# EAGLE library part LED-8X8-RGB-MATRIX (library Module)
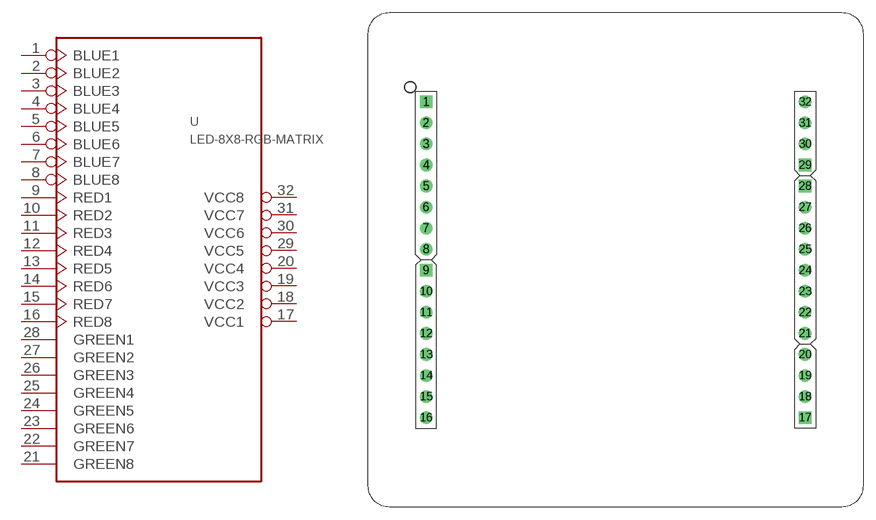
[diagram p11: symbol with the pads of 8X8-RGB-MATRIX; footprint 8X8-RGB-MATRIX]

Designator prefix U

## LED-8X8-RGB-MATRIX  [8X8-RGB-MATRIX]
1  BLUE1
2  BLUE2
3  BLUE3
4  BLUE4
5  BLUE5
6  BLUE6
7  BLUE7
8  BLUE8
9  RED1
10  RED2
11  RED3
12  RED4
13  RED5
14  RED6
15  RED7
16  RED8
17  VCC1
18  VCC2
19  VCC3
20  VCC4
21  GREEN8
22  GREEN7
23  GREEN6
24  GREEN5
25  GREEN4
26  GREEN3
27  GREEN2
28  GREEN1
29  VCC5
30  VCC6
31  VCC7
32  VCC8

## Footprint 8X8-RGB-MATRIX (pad centres in mm)
drill 0.813 pad 1.524 square: 1 6.985,48.895; 9 6.985,28.575; 17 52.705,10.795; 28 52.705,38.735; 29 52.705,41.275
drill 0.813 pad 1.524 round: 2 6.985,46.355; 3 6.985,43.815; 4 6.985,41.275; 5 6.985,38.735; 6 6.985,36.195; 7 6.985,33.655; 8 6.985,31.115; 10 6.985,26.035; 11 6.985,23.495; 12 6.985,20.955; 13 6.985,18.415; 14 6.985,15.875; 15 6.985,13.335; 16 6.985,10.795; 18 52.705,13.335; 19 52.705,15.875; 20 52.705,18.415; 21 52.705,20.955; 22 52.705,23.495; 23 52.705,26.035; 24 52.705,28.575; 25 52.705,31.115; 26 52.705,33.655; 27 52.705,36.195; 30 52.705,43.815; 31 52.705,46.355; 32 52.705,48.895